# Altium footprint library IND_CDRH127_LDNP-470MC_SUM.PcbLib: 1 footprints
Each footprint in its own frame and in the unit in brackets; x right, y up, seen from the top. Pads: shape width x height; smd on the part's side, far side on the other; paste and mask are expansions set on the pad; w line width, h text height; cw(c..) or ccw(c..) is an arc to the next point about the centre after c.
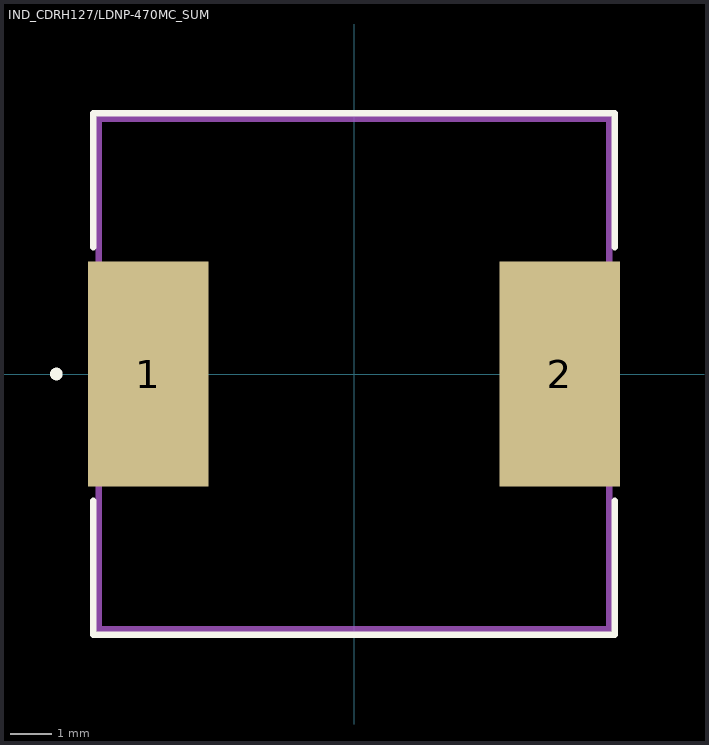
[diagram p0: the footprint, top view; thin cyan lines are the x and y axes]

## IND_CDRH127/LDNP-470MC_SUM [mil]
pads (2):
  rect 114x213 smd: 1(-195,0) 2(195,0)
Top Overlay:
  lines w6: -247,-120 -247,-247 247,-247 247,-120 ; -247,120 -247,247 247,247 247,120 ; -285,0 ccw(c-282,0) -279,0 ccw(c-282,0) -285,0
Mechanical 13:
  lines w0: -242,0 ccw(c-239,0) -236,0 ccw(c-239,0) -242,0
  lines w6: -242,-242 242,-242 242,242 -242,242 -242,0 -242,-242
3D body "LDNP-470MC--3DModel-STEP-56544.STEP": height 314.96, standoff 0, extent -236.22,-237.21 236.23,235.23